# EAGLE library part NUMONYX_FLASH (library icnh)
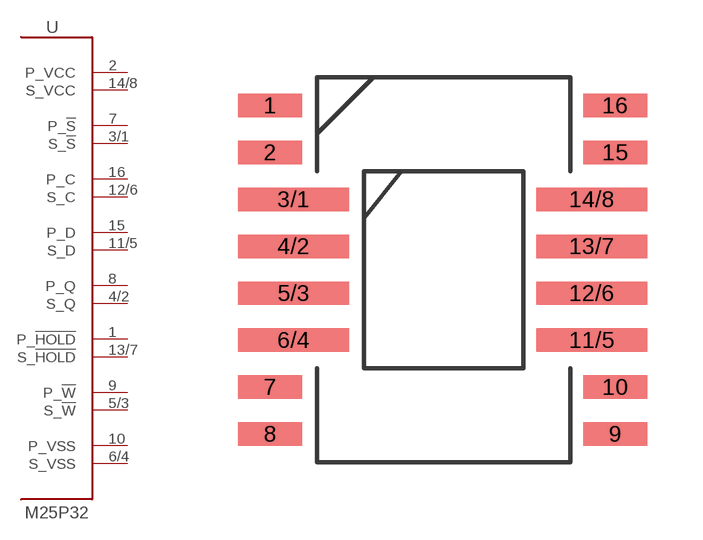
[diagram p4: symbol with the pads of NUMONYX_FLASH; footprint NUMONYX_FLASH]

Designator prefix U

## NUMONYX_FLASH  [NUMONYX_FLASH]
1  P_!HOLD!
2  P_VCC  pwr
3/1  S_!S!
4/2  S_Q
5/3  S_!W!
6/4  S_VSS  pwr
7  P_!S!
8  P_Q
9  P_!W!
10  P_VSS  pwr
11/5  S_D
12/6  S_C
13/7  S_!HOLD!
14/8  S_VCC  pwr
15  P_D
16  P_C

## Footprint NUMONYX_FLASH (pad centres in mm)
smd 1.727 x 0.635: 1 0,0; 2 0,-1.27; 7 0,-7.62; 8 0,-8.89; 9 9.347,-8.89; 10 9.347,-7.62; 15 9.347,-1.27; 16 9.347,0
smd 2.997 x 0.635: 3/1 0.635,-2.54; 4/2 0.635,-3.81; 5/3 0.635,-5.08; 6/4 0.635,-6.35; 11/5 8.712,-6.35; 12/6 8.712,-5.08; 13/7 8.712,-3.81; 14/8 8.712,-2.54